# Altium schematic symbol library 1825910-6.SchLib: 1 symbol
Pins are listed as number, name and electrical type; pins without a type are passive.

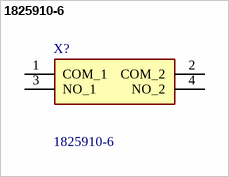
[diagram p0: symbol 1825910-6]

## 1825910-6
designator X?
Body Features: Product Orientation Vertical | Case Material Nylon | Actuator Force 5.64 OZ | Cover Material PET Film | Actuator Force 160 G | Actuator Color Black | Actuator Material PBT | Actuator Profile Extended | Case Color Black | Configuration Features: Operating Function NO | Ganged With | Support Bracket Without | Switch Feedback Type Tactile | Configuration (Pole-Throw) Single Pole - Single Throw | Number of Actuators Single | ESD Grounding Terminal Without | Contact Features: Contact Base Material; Manufacturer_Name: TE Connectivity; Geometry.Height: 5.3mm; Manufacturer_Part_Number: 1825910-6; Mouser Part Number: 650-1825910-6; Mouser Price/Stock: https://www.mouser.co.uk/ProductDetail/TE-Connectivity/1825910-6?qs=A6cQTCBcXncisYDS1KbpGA%3D%3D; Arrow Part Number: 1825910-6; Arrow Price/Stock: https://www.arrow.com/en/products/1825910-6/te-connectivity?utm_currency=USD&region=europe; Datasheet Link: https://www.te.com/commerce/DocumentDelivery/DDEController?Action=srchrtrv&DocNm=1308111-1_SWITCHES_CORE_PROGRAM_CATALOG&DocType=Catalog%20Section&DocLang=English&PartCntxt=1825910-6&DocFormat=pdf
footprint 18259106
pins: 1 COM_1, 2 COM_2, 3 NO_1, 4 NO_2